# EAGLE library part MPT6 (library pluggable_terminal_blocks)
PHOENIX CONNECTOR
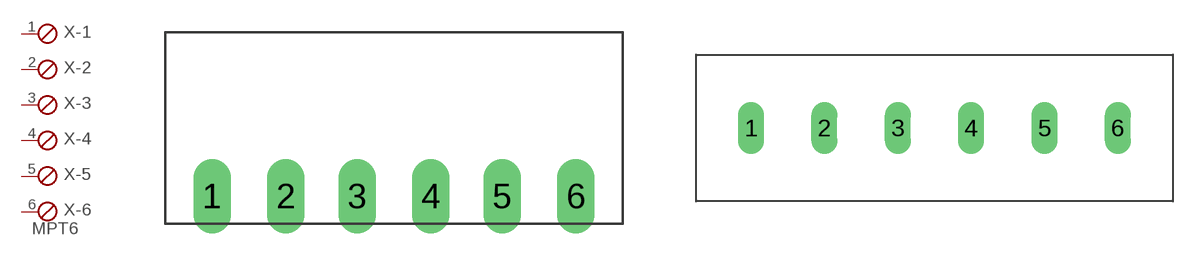
[diagram p0: symbol with the pads of 6POL35; footprints 6POL35, 6POL508]

Designator prefix X; gates -1=SKB -2=SKB -3=SKB -4=SKB -5=SKB -6=SKBV

## MPT63.5MM  [6POL35]
1  -1:1  pas
2  -2:1  pas
3  -3:1  pas
4  -4:1  pas
5  -5:1  pas
6  -6:1  pas

## MPT65.08MM  [6POL508]
Pads as for 6POL35

## Footprint 6POL35 (pad centres in mm)
PHOENIX CONNECTOR
drill 1.2 pad 1.778 long: 1 -8.75,0; 2 -5.21,0; 3 -1.77,0; 4 1.77,0; 5 5.21,0; 6 8.75,0

## Footprint 6POL508 (pad centres in mm)
drill 1.194 long: 1 0,0; 2 5.08,0; 3 10.16,0; 4 15.24,0; 5 20.32,0; 6 25.4,0